# Altium integrated library Diodo D2PAK.IntLib: 1 symbol
Pins are listed as number, name and electrical type; pins without a type are passive.

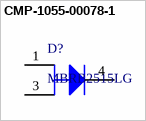
[diagram p0: symbol CMP-1055-00078-1]

## CMP-1055-00078-1
designator D?, comment MBRB2515LG
SWITCHMODE(TM) Power Rectifier ORing Function Diode, 3-Pin D2PAK, Pb-Free, Tube; Manufacturer: On Semiconductor; Configuration: Single; IFSM Max (A): 150; DatasheetVersion: Rev. 6; Mounting Technology: Surface Mount; ComponentLink1URL: http://www.onsemi.com/; ComponentLink3URL: http://www.onsemi.com/pub_link/Collateral/BUB323Z-D.PDF; PackageDescription: 3-Pin D2PAK, Body 9.145 x 9.97 mm, Pitch 2.54 mm; PackageVersion: Rev. J, 08/2004; PartNumber: MBRB2515LG; RoHS: TRUE; ComponentLink3Description: Package Specification; Packing: Tube; PackageReference: D2PAK-3-418B-04_J; ComponentLink2URL: http://www.onsemi.cn/pub_link/Collateral/MBRB2515L-D.PDF; ComponentLink2Description: Datasheet; ComponentLink1Description: Manufacturer URL
footprint ONSC-D2PAK-3-418B-04_J_V (FM, 3-Leads, Body 9.97x9.145mm, Pitch 2.54mm)
pins: 1 A, 3 A, 4 K